# Altium footprint library PCBLibSynthe.PcbLib: 38 footprints (part 3 of 3)
Each footprint in its own frame and in the unit in brackets; x right, y up, seen from the top. Pads: shape width x height; smd on the part's side, far side on the other; paste and mask are expansions set on the pad; w line width, h text height; cw(c..) or ccw(c..) is an arc to the next point about the centre after c.
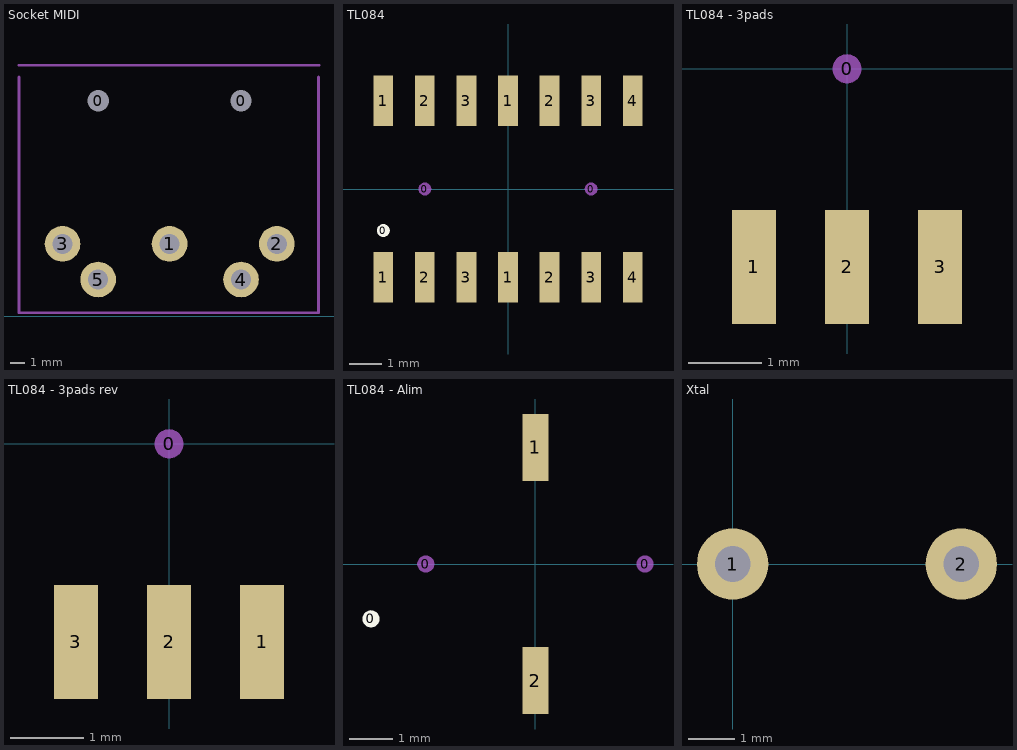
[diagram p2: the footprints below, top view; thin cyan lines are the x and y axes]

## Socket MIDI [mm] "Midi"
pads (7):
  round 1.4 hole 1.5 mask+0: 0(13.415,15.08) 0(23.415,15.08)
  round 2.5 hole 1.4: 1(18.415,5.08) 2(25.922,5.08) 3(10.922,5.08) 4(23.415,2.58) 5(13.415,2.58)
Mechanical 1:
  lines w0.2: 7.874,16.764 7.874,0.254 28.829,0.254 28.829,16.764 ; 7.874,17.58 28.874,17.58

## TL084 [mm] "Ampli-op"
pads (17):
  round 0.4 on Top Overlay: 0(-3.81,-1.27)
  round 0.4 on Mech1: 0(-2.54,0) 0(2.54,0)
  rect 0.6x1.55 smd: 1(-3.81,-2.7) 1(-3.81,2.7) 1(0,-2.7) 1(0,2.7) 2(-2.54,-2.7) 2(-2.54,2.7) 2(1.27,-2.7) 2(1.27,2.7) 3(-1.27,-2.7) 3(-1.27,2.7) 3(2.54,-2.7) 3(2.54,2.7) 4(3.81,-2.7) 4(3.81,2.7)

## TL084 - 3pads [mm] "Ampli-op"
pads (4):
  round 0.4 on Mech1: 0(0,0)
  rect 0.6x1.55 smd: 1(-1.27,-2.7) 2(0,-2.7) 3(1.27,-2.7)

## TL084 - 3pads rev [mm] "Ampli-op"
pads (4):
  round 0.4 on Mech1: 0(0,0)
  rect 0.6x1.55 smd: 1(1.27,-2.7) 2(0,-2.7) 3(-1.27,-2.7)

## TL084 - Alim [mm] "Ampli-op"
pads (5):
  round 0.4 on Top Overlay: 0(-3.81,-1.27)
  round 0.4 on Mech1: 0(-2.54,0) 0(2.54,0)
  rect 0.6x1.55 smd: 1(0,2.7) 2(0,-2.7)

## Xtal [mil]
pads (2):
  round 60 hole 30: 1(0,0) 2(192.13,0)